# EAGLE library part ATMEL_ZIGBIT900 (library SpecialIC)
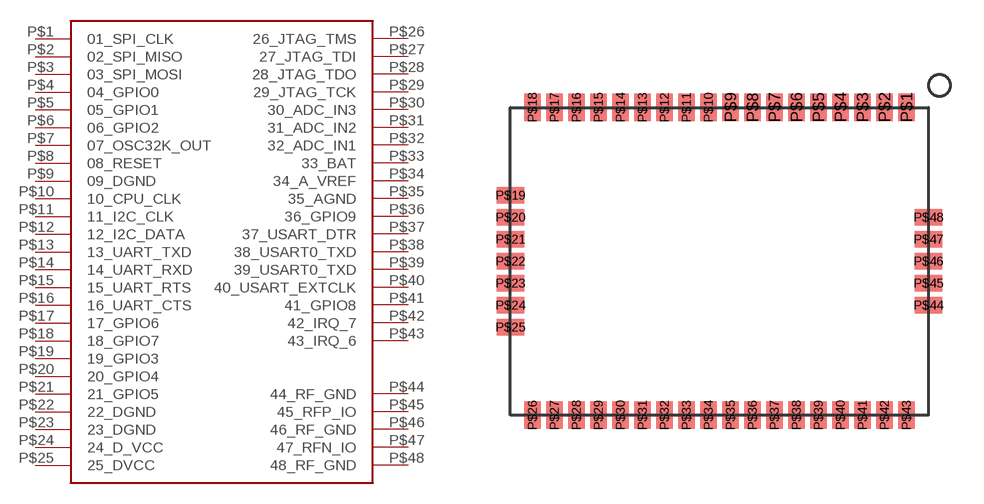
[diagram p7: symbol with the pads of ATMEL_ZIGBIT900; footprint ATMEL_ZIGBIT900]

Designator prefix -

## ATMEL_ZIGBIT900 (PLACE_PART: YES)  [ATMEL_ZIGBIT900]
P$1  01_SPI_CLK
P$2  02_SPI_MISO
P$3  03_SPI_MOSI
P$4  04_GPIO0
P$5  05_GPIO1
P$6  06_GPIO2
P$7  07_OSC32K_OUT
P$8  08_RESET
P$9  09_DGND
P$10  10_CPU_CLK
P$11  11_I2C_CLK
P$12  12_I2C_DATA
P$13  13_UART_TXD
P$14  14_UART_RXD
P$15  15_UART_RTS
P$16  16_UART_CTS
P$17  17_GPIO6
P$18  18_GPIO7
P$19  19_GPIO3
P$20  20_GPIO4
P$21  21_GPIO5
P$22  22_DGND
P$23  23_DGND
P$24  24_D_VCC
P$25  25_DVCC
P$26  26_JTAG_TMS
P$27  27_JTAG_TDI
P$28  28_JTAG_TDO
P$29  29_JTAG_TCK
P$30  30_ADC_IN3
P$31  31_ADC_IN2
P$32  32_ADC_IN1
P$33  33_BAT
P$34  34_A_VREF
P$35  35_AGND
P$36  36_GPIO9
P$37  37_USART_DTR
P$38  38_USART0_TXD
P$39  39_USART0_TXD
P$40  40_USART_EXTCLK
P$41  41_GPIO8
P$42  42_IRQ_7
P$43  43_IRQ_6
P$44  44_RF_GND
P$45  45_RFP_IO
P$46  46_RF_GND
P$47  47_RFN_IO
P$48  48_RF_GND

## Footprint ATMEL_ZIGBIT900 (pad centres in mm)
smd 0.75 x 1.27: P$1 9,7; P$2 8,7; P$3 7,7; P$4 6,7; P$5 5,7; P$6 4,7; P$7 3,7; P$8 2,7; P$9 1,7; P$10 0,7; P$11 -1,7; P$12 -2,7; P$13 -3,7; P$14 -4,7; P$15 -5,7; P$16 -6,7; P$17 -7,7; P$18 -8,7; P$26 -8,-7; P$27 -7,-7; P$28 -6,-7; P$29 -5,-7; P$30 -4,-7; P$31 -3,-7; P$32 -2,-7; P$33 -1,-7; P$34 0,-7; P$35 1,-7; P$36 2,-7; P$37 3,-7; P$38 4,-7; P$39 5,-7; P$40 6,-7; P$41 7,-7; P$42 8,-7; P$43 9,-7
smd 1.27 x 0.75: P$19 -9,3; P$20 -9,2; P$21 -9,1; P$22 -9,0; P$23 -9,-1; P$24 -9,-2; P$25 -9,-3; P$44 10,-2; P$45 10,-1; P$46 10,0; P$47 10,1; P$48 10,2